# EAGLE library part TCM8230MD-BREAKOUT (library drv8825)
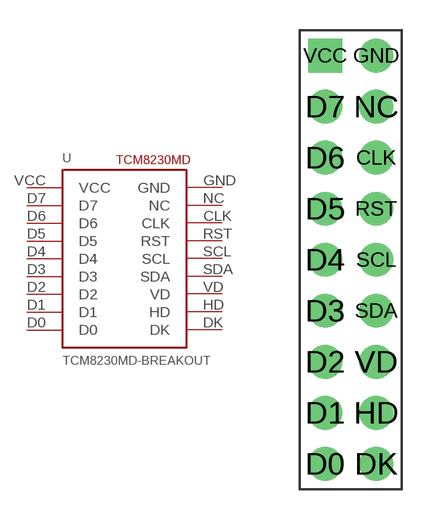
[diagram p1: symbol with the pads of TCM8230MD-BREAKOUT; footprint TCM8230MD-BREAKOUT]

Designator prefix -

## TCM8230MD-BREAKOUT  [TCM8230MD-BREAKOUT]
CLK  CLK
D0  D0
D1  D1
D2  D2
D3  D3
D4  D4
D5  D5
D6  D6
D7  D7
DK  DK
GND  GND
HD  HD
NC  NC
RST  RST
SCL  SCL
SDA  SDA
VCC  VCC
VD  VD

## Footprint TCM8230MD-BREAKOUT (pad centres in mm)
drill 0.8 pad 1.676: CLK 1.27,5.08; D0 -1.27,-10.16; D1 -1.27,-7.62; D2 -1.27,-5.08; D3 -1.27,-2.54; D4 -1.27,0; D5 -1.27,2.54; D6 -1.27,5.08; D7 -1.27,7.62; DK 1.27,-10.16; GND 1.27,10.16; HD 1.27,-7.62; NC 1.27,7.62; RST 1.27,2.54; SCL 1.27,0; SDA 1.27,-2.54; VD 1.27,-5.08
drill 0.8 pad 1.676 square: VCC -1.27,10.16